# Altium footprint library PcbLib.PcbLib: 22 footprints (part 2 of 2)
Each footprint in its own frame and in the unit in brackets; x right, y up, seen from the top. Pads: shape width x height; smd on the part's side, far side on the other; paste and mask are expansions set on the pad; w line width, h text height; cw(c..) or ccw(c..) is an arc to the next point about the centre after c.
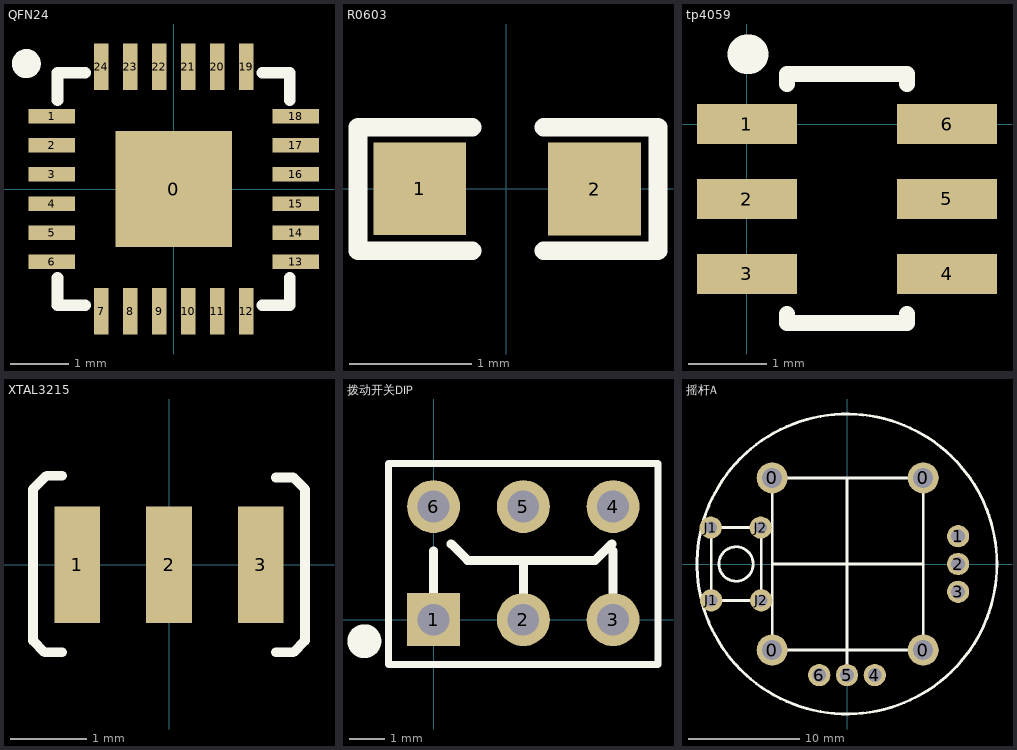
[diagram p1: the footprints below, top view; thin cyan lines are the x and y axes]

## QFN24 [mm] "QFN, 24-Leads, Body 4.0x4.0mm (max), Pitch 0.50mm, IPC Medium Density"
height 0.9
pads (25):
  rect 2x2 smd: 0(0,0)
  rect 0.8x0.25 smd: 1(-2.101,1.25) 2(-2.101,0.75) 3(-2.101,0.25) 4(-2.101,-0.25) 5(-2.101,-0.75) 6(-2.101,-1.25) 13(2.101,-1.25) 14(2.101,-0.75) 15(2.101,-0.25) 16(2.101,0.25) 17(2.101,0.75) 18(2.101,1.25)
  rect 0.25x0.8 smd: 7(-1.25,-2.101) 8(-0.75,-2.101) 9(-0.25,-2.101) 10(0.25,-2.101) 11(0.75,-2.101) 12(1.25,-2.101) 19(1.25,2.101) 20(0.75,2.101) 21(0.25,2.101) 22(-0.25,2.101) 23(-0.75,2.101) 24(-1.25,2.101)
Top Overlay:
  circle w0.25: c-2.538,2.159 r0.125
  lines w0.2: -2,-1.525 -2,-2 -1.525,-2 ; -2,1.525 -2,2 -1.525,2 ; 1.525,-2 2,-2 2,-1.525 ; 1.525,2 2,2 2,1.525

## R0603 [mil]
pads (2):
  rect 30x30 smd: 1(-28,0) 2(28.5,-0.06)
Top Overlay:
  lines w6: -11,-20.06 -48,-20.06 -48,19.94 -11,19.94 ; 12,-20.06 49,-20.06 49,19.94 12,19.94

## tp4059 [mil]
pads (6):
  rect 50x20 smd: 1(0,0) 2(0,-37.4) 3(0,-74.8) 4(100,-74.8) 5(100,-37.4) 6(100,0)
Top Overlay:
  lines w8: 20,-95 20,-99.32 80,-99.32 80,-95 ; 20,20 20,25 80,25 80,20
  lines w19.68: 0,35 1,35

## XTAL3215 [mm]
height 1
pads (3):
  rect 0.6x1.524 smd: 1(-1.2,0) 2(0,0) 3(1.2,0)
Top Overlay:
  lines w0.127: -1.397,-1.143 -1.626,-1.143 -1.778,-0.991 -1.778,0.991 -1.6,1.168 -1.397,1.168 ; 1.397,-1.143 1.626,-1.143 1.778,-0.991 1.778,0.991 1.626,1.143 1.397,1.143

## 拨动开关DIP [mm]
pads (6):
  rect 1.5x1.5 hole 0.9: 1(0,0)
  round 1.5 hole 0.9: 2(2.54,0) 3(5.08,0) 4(5.08,3.2) 5(2.54,3.2) 6(0,3.2)
Top Overlay:
  circle w0.6: c-1.958,-0.61 r0.18
  lines w0.2: 1.482,-1.27 6.35,-1.27 ; 6.35,-1.27 6.35,4.42 -1.27,4.42 -1.27,-1.27 6.35,-1.27
  lines w0.254: 0,0 0,1.948 ; 0.495,2.146 0.965,1.676 4.572,1.676 5.042,2.146 ; 2.54,0 2.54,1.676 ; 5.08,0 5.08,1.948

## 摇杆A [mm]
pads (14):
  round 2.8 hole 1.8: 0(-6.731,-7.747) 0(-6.731,7.753) 0(6.858,-7.747) 0(6.858,7.753)
  round 2 hole 1.25: 1(10,2.5) 2(10,0) 3(10,-2.5) 4(2.5,-10) 5(0,-10) 6(-2.5,-10)
  round 2 hole 1.1: J1(-12.268,3.277) J1(-12.222,-3.274) J2(-7.768,3.277) J2(-7.722,-3.274)
Top Overlay:
  circle w0.254: c0,0 r13.5
  circle w0.254: c-9.982,0 r1.547
  lines w0.254: -12.268,3.277 -7.768,3.277 -7.722,3.23 -7.722,-3.274 -12.222,-3.274 -12.222,3.23 ; -6.731,0 0,0 ; 0,-10 0,0 ; 0,7.753 0,0 ; 6.769,-7.747 -6.731,-7.747 -6.731,7.753 6.769,7.753 ; 6.858,-7.747 6.858,7.753 ; 6.858,0 0,0